# EAGLE library part 62256 (library fc-nes)
MEMORY
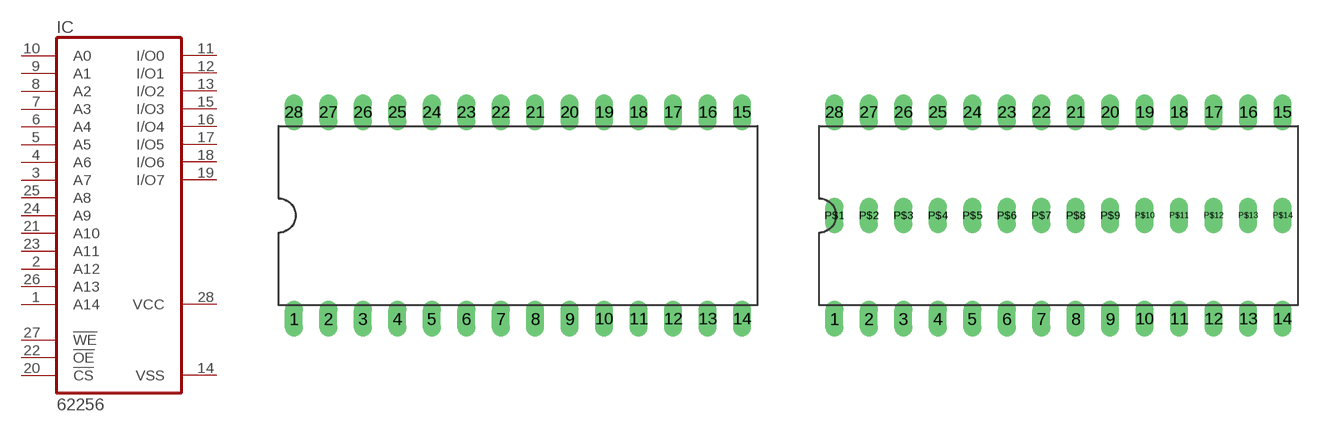
[diagram p4: symbol with the pads of DIL28W; footprints DIL28W, DIL28-6W]

Designator prefix IC

## 62256N (OC_FARNELL: unknown; OC_NEWARK: unknown)  [DIL28W]
1  A14  in
2  A12  in
3  A7  in
4  A6  in
5  A5  in
6  A4  in
7  A3  in
8  A2  in
9  A1  in
10  A0  in
11  I/O0
12  I/O1
13  I/O2
14  VSS  pwr
15  I/O3
16  I/O4
17  I/O5
18  I/O6
19  I/O7
20  !CS  in
21  A10  in
22  !OE  in
23  A11  in
24  A9  in
25  A8  in
26  A13  in
27  !WE  in
28  VCC  pwr

## 62256+W  [DIL28-6W]
1  A14  in
2  A12  in
3  A7  in
4  A6  in
5  A5  in
6  A4  in
7  A3  in
8  A2  in
9  A1  in
10  A0  in
11  I/O0
12  I/O1
13  I/O2
14  VSS  pwr
15  I/O3
16  I/O4
17  I/O5
18  I/O6
19  I/O7
20  !CS  in
21  A10  in
22  !OE  in
23  A11  in
24  A9  in
25  A8  in
26  A13  in
27  !WE  in
28  VCC  pwr
P$1  A14  in
P$2  A12  in
P$3  A7  in
P$4  A6  in
P$5  A5  in
P$6  A4  in
P$7  A3  in
P$8  A2  in
P$9  A1  in
P$10  A0  in
P$11  I/O0
P$12  I/O1
P$13  I/O2
P$14  VSS  pwr

## 62256+  [DIL28-6]
Pads as for DIL28-6W

## 62256S  [DIL28-6S]
Pads as for DIL28W

## Footprint DIL28W (pad centres in mm)
Dual In Line Package 0.6 inch
drill 0.813 long: 1 -16.51,-7.62; 2 -13.97,-7.62; 3 -11.43,-7.62; 4 -8.89,-7.62; 5 -6.35,-7.62; 6 -3.81,-7.62; 7 -1.27,-7.62; 8 1.27,-7.62; 9 3.81,-7.62; 10 6.35,-7.62; 11 8.89,-7.62; 12 11.43,-7.62; 13 13.97,-7.62; 14 16.51,-7.62; 15 16.51,7.62; 16 13.97,7.62; 17 11.43,7.62; 18 8.89,7.62; 19 6.35,7.62; 20 3.81,7.62; 21 1.27,7.62; 22 -1.27,7.62; 23 -3.81,7.62; 24 -6.35,7.62; 25 -8.89,7.62; 26 -11.43,7.62; 27 -13.97,7.62; 28 -16.51,7.62

## Footprint DIL28-6W (pad centres in mm)
Dual In Line Package 0.6 inch
drill 0.813 long: 1 -16.51,-7.62; 2 -13.97,-7.62; 3 -11.43,-7.62; 4 -8.89,-7.62; 5 -6.35,-7.62; 6 -3.81,-7.62; 7 -1.27,-7.62; 8 1.27,-7.62; 9 3.81,-7.62; 10 6.35,-7.62; 11 8.89,-7.62; 12 11.43,-7.62; 13 13.97,-7.62; 14 16.51,-7.62; 15 16.51,7.62; 16 13.97,7.62; 17 11.43,7.62; 18 8.89,7.62; 19 6.35,7.62; 20 3.81,7.62; 21 1.27,7.62; 22 -1.27,7.62; 23 -3.81,7.62; 24 -6.35,7.62; 25 -8.89,7.62; 26 -11.43,7.62; 27 -13.97,7.62; 28 -16.51,7.62
drill 0.8 long: P$1 -16.51,0; P$2 -13.97,0; P$3 -11.43,0; P$4 -8.89,0; P$5 -6.35,0; P$6 -3.81,0; P$7 -1.27,0; P$8 1.27,0; P$9 3.81,0; P$10 6.35,0; P$11 8.89,0; P$12 11.43,0; P$13 13.97,0; P$14 16.51,0

## Footprint DIL28-6 (pad centres in mm)
Dual In Line Package 0.6 inch
drill 0.813: 1 -16.51,-7.62; 2 -13.97,-7.62; 3 -11.43,-7.62; 4 -8.89,-7.62; 5 -6.35,-7.62; 6 -3.81,-7.62; 7 -1.27,-7.62; 8 1.27,-7.62; 9 3.81,-7.62; 10 6.35,-7.62; 11 8.89,-7.62; 12 11.43,-7.62; 13 13.97,-7.62; 14 16.51,-7.62; 15 16.51,7.62; 16 13.97,7.62; 17 11.43,7.62; 18 8.89,7.62; 19 6.35,7.62; 20 3.81,7.62; 21 1.27,7.62; 22 -1.27,7.62; 23 -3.81,7.62; 24 -6.35,7.62; 25 -8.89,7.62; 26 -11.43,7.62; 27 -13.97,7.62; 28 -16.51,7.62
drill 0.8: P$1 -16.51,0; P$2 -13.97,0; P$3 -11.43,0; P$4 -8.89,0; P$5 -6.35,0; P$6 -3.81,0; P$7 -1.27,0; P$8 1.27,0; P$9 3.81,0; P$10 6.35,0; P$11 8.89,0; P$12 11.43,0; P$13 13.97,0; P$14 16.51,0

## Footprint DIL28-6S (pad centres in mm)
Dual In Line Package 0.6 inch
drill 0.813: 1 -16.51,-4.445; 2 -13.97,-4.445; 3 -11.43,-4.445; 4 -8.89,-4.445; 5 -6.35,-4.445; 6 -3.81,-4.445; 7 -1.27,-4.445; 8 1.27,-4.445; 9 3.81,-4.445; 10 6.35,-4.445; 11 8.89,-4.445; 12 11.43,-4.445; 13 13.97,-4.445; 14 16.51,-4.445; 15 16.51,4.445; 16 13.97,4.445; 17 11.43,4.445; 18 8.89,4.445; 19 6.35,4.445; 20 3.81,4.445; 21 1.27,4.445; 22 -1.27,4.445; 23 -3.81,4.445; 24 -6.35,4.445; 25 -8.89,4.445; 26 -11.43,4.445; 27 -13.97,4.445; 28 -16.51,4.445